# Altium footprint library UFQFPN48.PcbLib: 1 footprints
Each footprint in its own frame and in the unit in brackets; x right, y up, seen from the top. Pads: shape width x height; smd on the part's side, far side on the other; paste and mask are expansions set on the pad; w line width, h text height; cw(c..) or ccw(c..) is an arc to the next point about the centre after c.
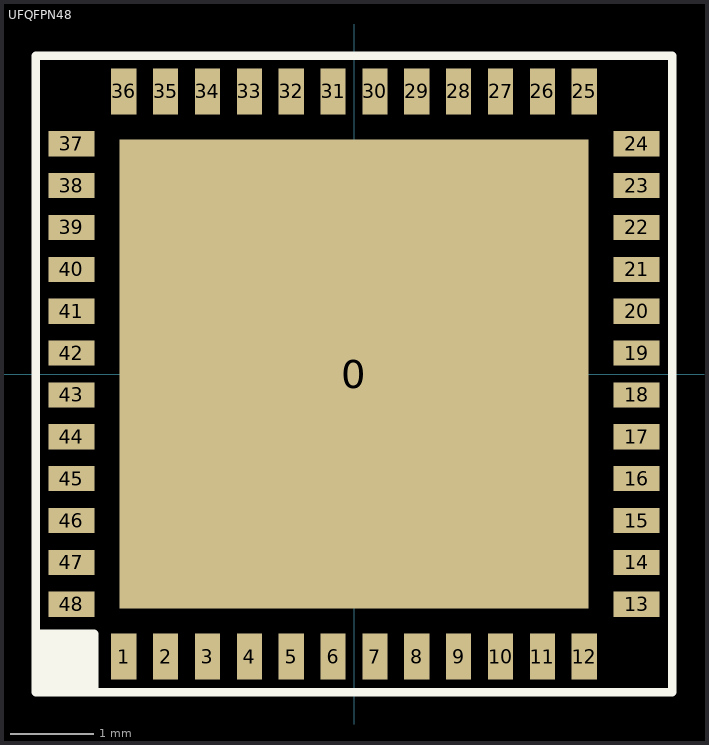
[diagram p0: the footprint, top view; thin cyan lines are the x and y axes]

## UFQFPN48 [mm]
pads (49):
  rect 5.6x5.6 smd paste-10: 0(0,0)
  rect 0.3x0.55 smd: 1(-2.75,-3.375) 2(-2.25,-3.375) 3(-1.75,-3.375) 4(-1.25,-3.375) 5(-0.75,-3.375) 6(-0.25,-3.375) 7(0.25,-3.375) 8(0.75,-3.375) 9(1.25,-3.375) 10(1.75,-3.375) 11(2.25,-3.375) 12(2.75,-3.375) 25(2.75,3.375) 26(2.25,3.375) 27(1.75,3.375) 28(1.25,3.375) 29(0.75,3.375) 30(0.25,3.375) 31(-0.25,3.375) 32(-0.75,3.375) 33(-1.25,3.375) 34(-1.75,3.375) 35(-2.25,3.375) 36(-2.75,3.375)
  rect 0.55x0.3 smd: 13(3.375,-2.75) 14(3.375,-2.25) 15(3.375,-1.75) 16(3.375,-1.25) 17(3.375,-0.75) 18(3.375,-0.25) 19(3.375,0.25) 20(3.375,0.75) 21(3.375,1.25) 22(3.375,1.75) 23(3.375,2.25) 24(3.375,2.75) 37(-3.375,2.75) 38(-3.375,2.25) 39(-3.375,1.75) 40(-3.375,1.25) 41(-3.375,0.75) 42(-3.375,0.25) 43(-3.375,-0.25) 44(-3.375,-0.75) 45(-3.375,-1.25) 46(-3.375,-1.75) 47(-3.375,-2.25) 48(-3.375,-2.75)
Top Overlay:
  rectangle: -3.8,-3.8 -3.1,-3.1
  lines w0.1: -3.8,-3.1 -3.1,-3.1 -3.1,-3.8 ; -3.8,-3.8 -3.8,3.8 3.8,3.8 3.8,-3.8 -3.8,-3.8
Top Paste:
  rectangle: -2.5,0.5 -0.5,2.5
  rectangle: -2.5,-2.5 -0.5,-0.5
  rectangle: 0.5,0.5 2.5,2.5
  rectangle: 0.5,-2.5 2.5,-0.5
3D body: height 0.6, standoff 0, extent -3.5,-3.5 3.5,3.5